# Altium schematic symbol library TL431_SOT23.SchLib: 1 symbol
Pins are listed as number, name and electrical type; pins without a type are passive.

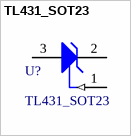
[diagram p0: symbol TL431_SOT23]

## TL431_SOT23
designator U?
SOT-23_TL431_Voltage Reference ROHS_C181103; LCSC: *
footprint TL431_SOT23
pins: 1 REF (in), 2 CATHODE, 3 ANODE